# EAGLE library part 52207-1085 (library piccoli)
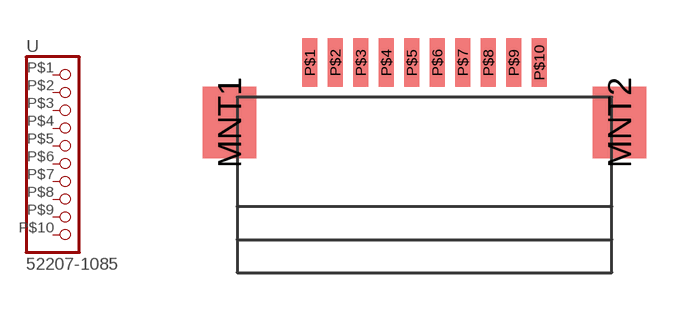
[diagram p8: symbol with the pads of 52207-1085; footprint 52207-1085]

Designator prefix -

## 52207-1085  [52207-1085]
P$1  1  pas
P$2  2  pas
P$3  3  pas
P$4  4  pas
P$5  5  pas
P$6  6  pas
P$7  7  pas
P$8  8  pas
P$9  9  pas
P$10  10  pas

## Footprint 52207-1085 (pad centres in mm)
smd 2.1 x 2.8: MNT1 -7.65,-1.4; MNT2 7.65,-1.4
smd 0.6 x 1.9: P$1 -4.5,0.95; P$2 -3.5,0.95; P$3 -2.5,0.95; P$4 -1.5,0.95; P$5 -0.5,0.95; P$6 0.5,0.95; P$7 1.5,0.95; P$8 2.5,0.95; P$9 3.5,0.95; P$10 4.5,0.95